# Altium schematic symbol library SJ3-35083C-TR.SchLib: 1 symbol
Pins are listed as number, name and electrical type; pins without a type are passive.

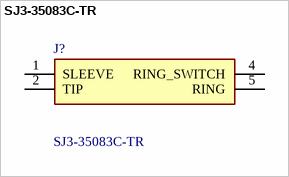
[diagram p0: symbol SJ3-35083C-TR]

## SJ3-35083C-TR
designator J?
3.5 mm Stereo Jack, Through Hole, 3 Conductors, 1 Internal Switches,  Tape & Reel Packaging; Manufacturer_Name: Same Sky; Geometry.Height: 5.3mm; Mouser Part Number: 179-SJ3-35083C-TR; Mouser Price/Stock: https://www.mouser.co.uk/ProductDetail/Same-Sky/SJ3-35083C-TR?qs=IKkN%2F947nfCaz2iKZVUfKQ%3D%3D; Manufacturer_Part_Number: SJ3-35083C-TR; Datasheet Link: https://www.sameskydevices.com/product/resource/supplyframepdf/sj3-3508x.pdf
footprint SJ335083CTR
pins: 1 SLEEVE, 2 TIP, 4 RING_SWITCH, 5 RING